# Altium footprint library UVICHyrbidLibrary (1).PcbLib: 116 footprints (part 6 of 8)
Each footprint in its own frame and in the unit in brackets; x right, y up, seen from the top. Pads: shape width x height; smd on the part's side, far side on the other; paste and mask are expansions set on the pad; w line width, h text height; cw(c..) or ccw(c..) is an arc to the next point about the centre after c.
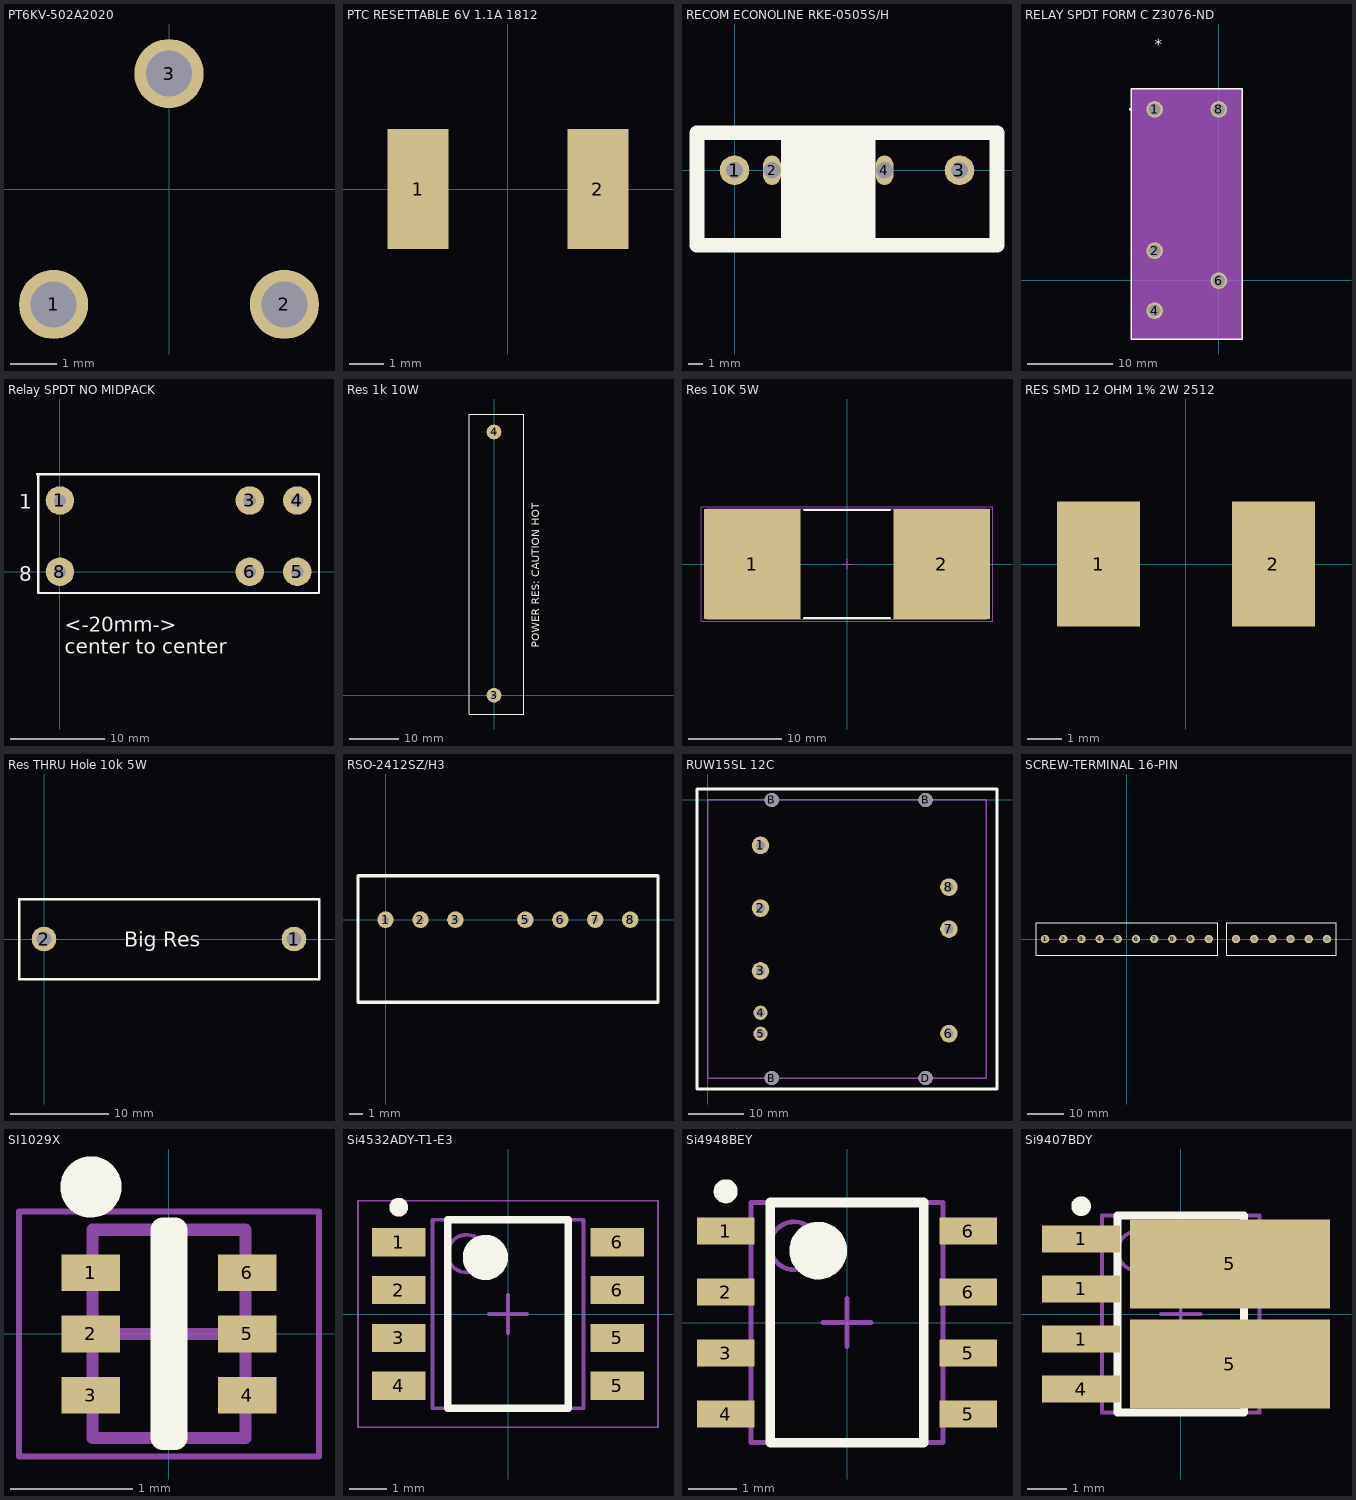
[diagram p5: the footprints below, top view; thin cyan lines are the x and y axes]

## PT6KV-502A2020 [mm] "5k Potentiometer"
pads (3):
  round 1.5 hole 1: 1(-2.5,-2.5) 2(2.5,-2.5) 3(0,2.5)

## PTC RESETTABLE 6V 1.1A 1812 [mm]
pads (2):
  rect 1.78x3.5 smd: 1(-2.615,0) 2(2.615,0)

## RECOM ECONOLINE RKE-0505S/H [mm] "RECOM ECONOLINE RKE-0505S/H"
pads (4):
  round 2 hole 1.15: 1(0,0) 3(15.24,0)
  oval 1.2x2 hole 1.15: 2(2.54,0) 4(10.16,0)
Top Overlay:
  rectangle: 3.15,-4.877 9.55,2.515
  lines w1: -2.54,-5.08 17.78,-5.08 17.78,2.54 -2.54,2.54 -2.54,-5.08
3D body: height 10.2, standoff 0, extent -2.5,-5 17.5,2.5

## RELAY SPDT FORM C Z3076-ND [mil] "Z3076-ND"
pads (5):
  round 76 / inner round 60 / far side round 76 hole 56 paste+0 mask+0: 1(-295,785) 2(-295,135) 4(-295,-140.59) 6(0,-2.8) 8(0,785)
Top Overlay:
  circle w6: c-405.9,785 r3
  lines w6: -402.5,-271 107.5,-271 107.5,881 -402.5,881 -402.5,-271
  text "*" at -295,1058.86 h50
Mechanical 13:
  circle w0: c-257,785 r3
  lines w0: -159.5,876 ccw(c-147.5,876) -135.5,876
  lines w1: -397.5,-266 102.5,-266 102.5,876 -397.5,876 -397.5,-266
  text "*" at -295,876.86 h50
Mechanical 15:
  region: 104.5,-268 -399.5,-268 -399.5,878 104.5,878
  region: 102.5,-266 -397.5,-266 -397.5,876 102.5,876
  lines w6: -399.5,-268 -399.5,878 104.5,878 104.5,-268 -399.5,-268
3D body: height 10, standoff 0, extent 0,-175 10,-165

## Relay SPDT NO MIDPACK [mm] "Z5209-ND"
pads (6):
  round 3 hole 1.3: 1(0,7.5) 3(20,7.5) 4(25,7.5) 5(25,0) 6(20,0) 8(0,0)
Top Overlay:
  lines w0.254: -2.376,10.25 27.3,10.25 27.3,-2.25 -2.3,-2.25 -2.3,10.25
  text "1" at -4.318,6.604 h1.52
  text "8" at -4.318,-1.016 h1.52
  text "<-20mm-> / center to center" at 0.508,-8.636 h1.52

## Res 1k 10W [mm] "1.0KW-10-ND"
pads (2):
  round 3 hole 1.1: 3(0,0) 4(0,53.5)
Top Overlay:
  lines w0.254: -5,-3.81 0.508,-3.81 6,-3.81 ; -5,-3.73 -5,57.15 0,57.15 6,57.15 6,-3.714
  text "POWER RES: CAUTION HOT" at 9.144,9.652 h1.52

## Res 10K 5W [mm] "For TSMP"
height 11
pads (2):
  rect 10.35x11.8 smd: 1(-10.175,0) 2(10.175,0)
Top Overlay:
  lines w0.2: -4.6,-5.8 4.6,-5.8 ; -4.6,5.8 4.6,5.8
Mechanical 13:
  lines w0.1: -15,-5.9 15,-5.9 15,5.9 -15,5.9 -15,-5.9
Mechanical 15:
  lines w0.05: -15.6,-6.15 15.6,-6.15 15.6,6.15 -15.6,6.15 -15.6,-6.15
  lines w0.1: -0.5,0 0.5,0 ; 0,-0.5 0,0.5
3D body "Res 10K 5W.step": height 11, standoff 0, extent -15,-5.9 15,5.9

## RES SMD 12 OHM 1% 2W 2512 [mm]
pads (2):
  rect 2.45x3.7 smd: 1(-2.575,0) 2(2.575,0)

## Res THRU Hole 10k 5W [mm]
height 18
pads (2):
  round 2.5 hole 1.5: 1(25.4,0) 2(0,0)
Top Overlay:
  lines w0.254: -2.54,-4.064 -2.54,0 -2.54,4.064 27.94,4.064 27.94,-4.064 -2.54,-4.064
  text "Big Res" at 8.128,-0.762 h1.52

## RSO-2412SZ/H3 [mm] "Recom Power 12V, 83mA DC-DC"
pads (7):
  round 1.2 hole 0.5: 1(0,0) 2(2.54,0) 3(5.08,0) 5(10.16,0) 6(12.71,0) 7(15.24,0) 8(17.78,0)
Top Overlay:
  lines w0.254: -2,-6 19.8,-6 19.8,3.2 -2,3.2 -2,-6

## RUW15SL 12C [mm] "MuRata RC-DC"
pads (12):
  round 3.2 hole 1.6: 1(9.56,-8.25)
  round 3.2 / inner round 2.6 / far side round 3.2 hole 1.6: 2(9.56,-19.68) 3(9.56,-31.11) 6(43.85,-42.54) 7(43.85,-23.49) 8(43.85,-15.87)
  round 2.6 hole 1.6: 4(9.56,-38.73) 5(9.56,-42.54)
  round 2.6 hole 2.6 unplated: B(11.6,-50.6) B(11.6,0) B(39.6,0) D(39.6,-50.6)
Top Overlay:
  lines w0.5: -2,-52.6 -2,2 52.6,2 52.6,-52.6 -2,-52.6
Mechanical 1:
  lines w0.254: 0,-50.6 50.6,-50.6 50.6,0 0,0 0,-50.6
3D body: height 20.5, standoff 0.5, extent 0,-50.6 50.61,0

## SCREW-TERMINAL 16-PIN [mm] "8 Pin Screw Terminal for 3PDT Relays"
pads (16):
  round 2.3 hole 1.3: 1(-22.5,0) 2(-17.5,0) 3(-12.5,0) 4(-7.5,0) 5(-2.5,0) 6(2.5,0) 7(7.5,0) 8(12.5,0) 9(17.5,0) 10(22.5,0) 11(30,0) 12(35,0) 13(40,0) 14(45,0) 15(50,0) 16(55,0)
Top Overlay:
  lines w0.254: -25,-4.5 -25,4.5 25,4.5 25,-4.5 -25,-4.5 ; 27.5,-4.5 57.5,-4.5 57.5,4.5 27.5,4.5 27.5,-4.5

## SI1029X [mm] "Vishay Complementary N and P CH. 60V MOSFET"
height 0.6
pads (6):
  rect 0.478x0.3 smd: 1(-0.637,0.5) 2(-0.637,0) 3(-0.637,-0.5) 4(0.638,-0.5) 5(0.638,0) 6(0.638,0.5)
Top Overlay:
  circle w0.25: c-0.637,1.2 r0.125
  lines w0.2: -0.05,-0.85 0.05,-0.85 0.05,0.85 -0.05,0.85 -0.05,-0.85
Mechanical 13:
  lines w0.1: -0.625,-0.85 -0.625,0.85 0.625,0.85 0.625,-0.85 -0.625,-0.85
Mechanical 15:
  lines w0.05: -1.225,-1 -1.225,1 1.225,1 1.225,-1 -1.225,-1
  lines w0.1: -0.5,0 0.5,0 ; 0,-0.5 0,0.5
3D body: height 0.6, standoff 0, extent -0.625,-0.85 0.625,0.85

## Si4532ADY-T1-E3 [mm] "Vishay N and P Channel MOSFET"
height 1.75
pads (8):
  rect 1.41x0.75 smd: 1(-2.895,1.905) 2(-2.895,0.635) 3(-2.895,-0.635) 4(-2.895,-1.905) 5(2.895,-1.905) 5(2.895,-0.635) 6(2.895,0.635) 6(2.895,1.905)
Top Overlay:
  circle w0.6: c-0.6,1.5 r0.3
  circle w0.25: c-2.895,2.83 r0.125
  lines w0.2: -1.6,-2.5 1.6,-2.5 1.6,2.5 -1.6,2.5 -1.6,-2.5
Mechanical 13:
  circle w0.1: c-1.1,1.6 r0.5
  lines w0.1: -2,-2.5 2,-2.5 2,2.5 -2,2.5 -2,-2.5
Mechanical 15:
  lines w0.05: -3.975,-3 3.975,-3 3.975,3 -3.975,3 -3.975,-3
  lines w0.1: -0.5,0 0.5,0 ; 0,-0.5 0,0.5
3D body: height 1.75, standoff 0.1, extent -2,-2.5 2,2.5

## Si4948BEY [mm] "Vishay Dual P-Channel 60-V MOSFET"
height 1.75
pads (8):
  rect 1.194x0.559 smd: 1(-2.527,1.905) 2(-2.527,0.635) 3(-2.527,-0.635) 4(-2.527,-1.905) 5(2.527,-1.905) 5(2.527,-0.635) 6(2.527,0.635) 6(2.527,1.905)
Top Overlay:
  circle w0.6: c-0.6,1.5 r0.3
  circle w0.25: c-2.527,2.735 r0.125
  lines w0.2: -1.6,-2.5 1.6,-2.5 1.6,2.5 -1.6,2.5 -1.6,-2.5
Mechanical 13:
  circle w0.1: c-1.1,1.6 r0.5
  lines w0.1: -2,-2.5 2,-2.5 2,2.5 -2,2.5 -2,-2.5
Mechanical 15:
  lines w0.1: -0.5,0 0.5,0 ; 0,-0.5 0,0.5
3D body: height 1.75, standoff 0.1, extent -2,-2.5 2,2.5

## Si9407BDY [mm] "Vishay 60V MOSFET (Copper Spreading Footprint)"
pads (6):
  rect 1.98x0.69 smd: 1(-2.527,-0.635) 1(-2.527,0.635) 1(-2.527,1.905) 4(-2.527,-1.905)
  rect 5.07x2.25 smd: 5(1.248,-1.27) 5(1.248,1.27)
Top Overlay:
  circle w0.25: c-2.527,2.735 r0.125
  circle w0.6: c-0.6,1.5 r0.3
  lines w0.2: -1.6,-2.5 -1.6,2.5 1.6,2.5 1.6,-2.5 -1.6,-2.5
Mechanical 13:
  circle w0.1: c-1.1,1.6 r0.5
  lines w0.1: -2,-2.5 -2,2.5 2,2.5 2,-2.5 -2,-2.5
Mechanical 15:
  lines w0.1: -0.5,0 0.5,0 ; 0,-0.5 0,0.5
3D body: height 1.75, standoff 0.1, extent -2,-2.5 2,2.5